# Altium footprint library Capacitor - Aluminium TH.PcbLib: 31 footprints (part 2 of 2)
Each footprint in its own frame and in the unit in brackets; x right, y up, seen from the top. Pads: shape width x height; smd on the part's side, far side on the other; paste and mask are expansions set on the pad; w line width, h text height; cw(c..) or ccw(c..) is an arc to the next point about the centre after c.
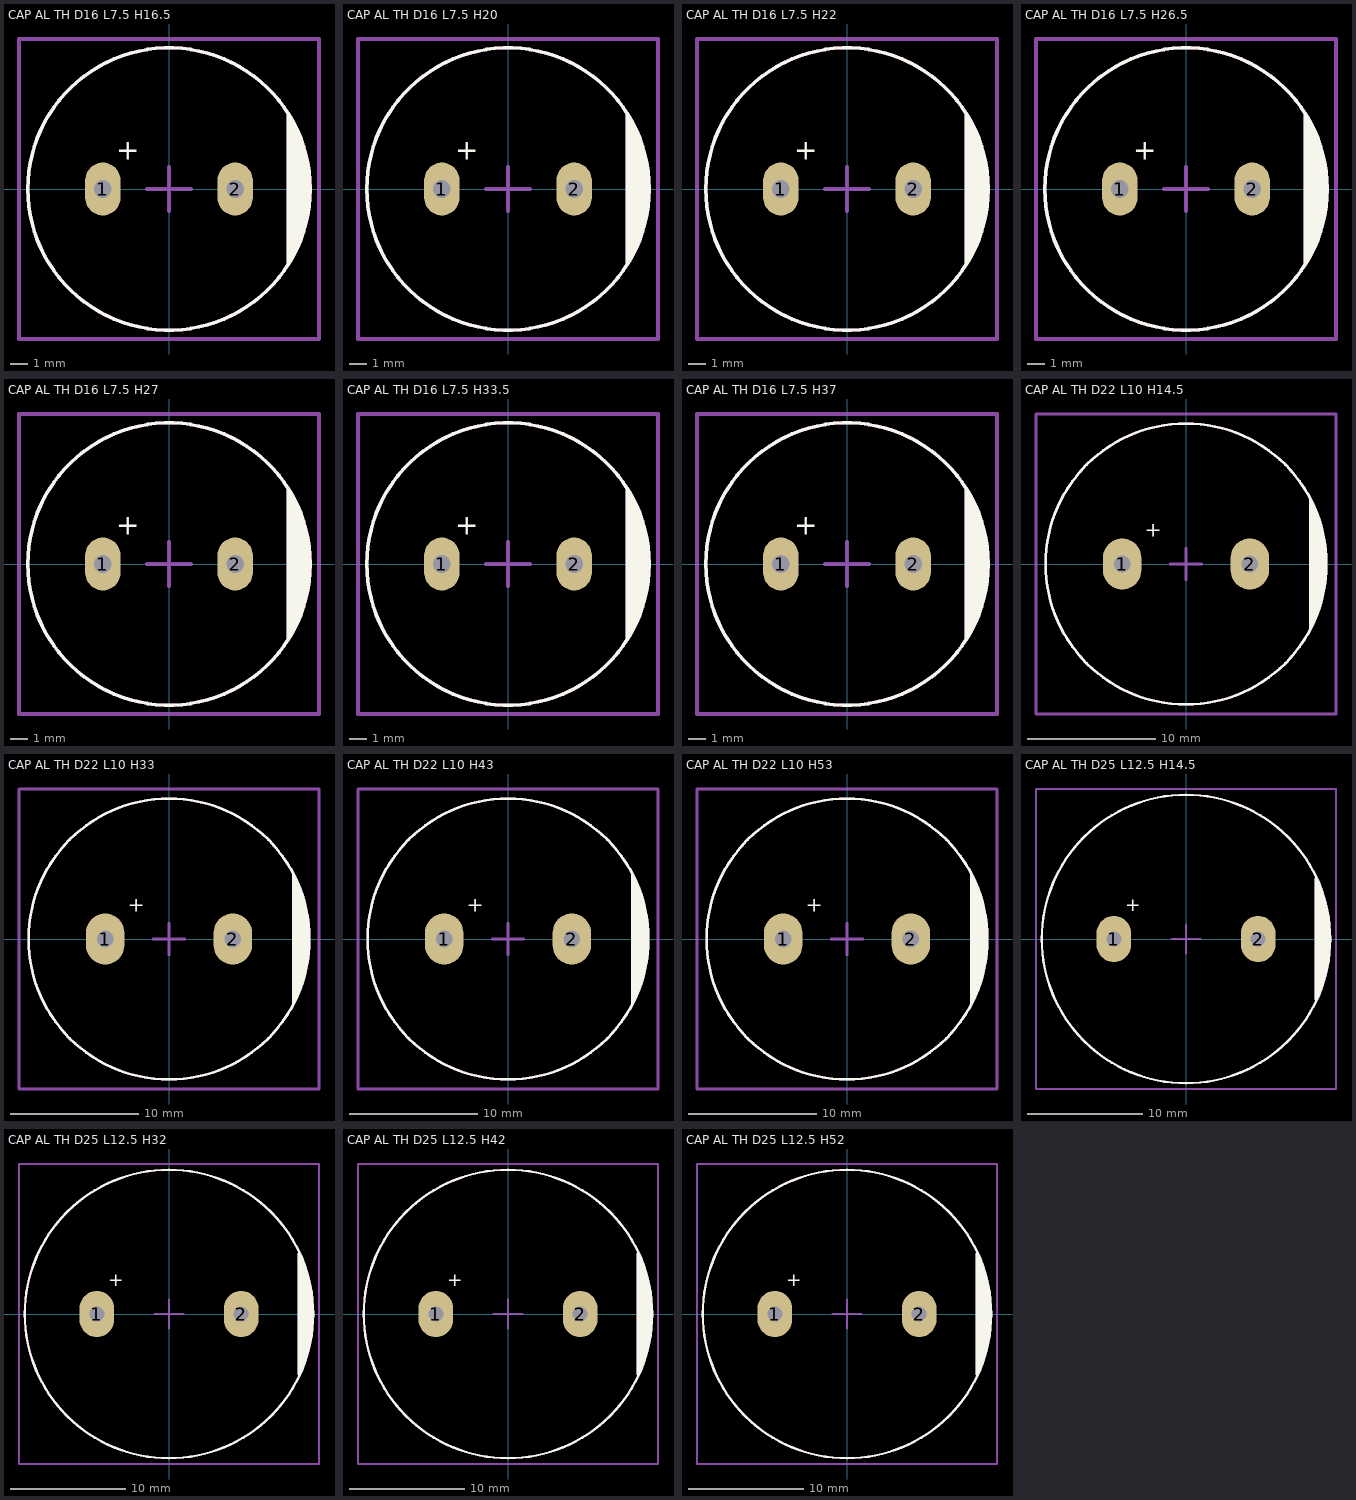
[diagram p1: the footprints below, top view; thin cyan lines are the x and y axes]

## CAP AL TH D16 L7.5 H16.5 [mm] "16MM Diameter, 7.5MM Lead Spacing Aluminium Capacitor"
height 16.5
pads (2):
  oval 2x3 hole 1: 1(-3.75,0) 2(3.75,0)
Top Overlay:
  circle w0.2: c0,0 r8
  region: 6.75,-4.25 6.75,4.25 7.5,2.75 8,1 8,0 7.75,-1.75 7.5,-2.75
  lines w0.2: 6.75,-4.25 6.75,4.25
  text "+" at -3,1.25 h2
Mechanical 13:
  circle w0.2: c0,0 r8
  lines w0.2: 6.75,-4.25 6.75,4.25
Mechanical 15:
  lines w0.2: -1.25,0 1.25,0 ; 0,-1.25 0,1.25 ; -8.5,-8.5 8.5,-8.5 8.5,8.5 -8.5,8.5 -8.5,-8.5
3D body "CAP ALTH D-16MM L-7.5MM H-16.5MM .STEP": height 16.7, standoff -3, extent -8,-7.991 8,7.991

## CAP AL TH D16 L7.5 H20 [mm] "16MM Diameter, 7.5MM Lead Spacing Aluminium Capacitor"
height 20
pads (2):
  oval 2x3 hole 1: 1(-3.75,0) 2(3.75,0)
Top Overlay:
  circle w0.2: c0,0 r8
  region: 6.75,-4.25 6.75,4.25 7.5,2.75 8,1 8,0 7.75,-1.75 7.5,-2.75
  lines w0.2: 6.75,-4.25 6.75,4.25
  text "+" at -3,1.25 h2
Mechanical 13:
  circle w0.2: c0,0 r8
  lines w0.2: 6.75,-4.25 6.75,4.25
Mechanical 15:
  lines w0.2: -1.25,0 1.25,0 ; 0,-1.25 0,1.25 ; -8.5,-8.5 8.5,-8.5 8.5,8.5 -8.5,8.5 -8.5,-8.5
3D body "CAP ALTH D-16MM L-7.5MM H-20MM .STEP": height 20.2, standoff -3, extent -8,-7.994 8,7.994

## CAP AL TH D16 L7.5 H22 [mm] "16MM Diameter, 7.5MM Lead Spacing Aluminium Capacitor"
height 22
pads (2):
  oval 2x3 hole 1: 1(-3.75,0) 2(3.75,0)
Top Overlay:
  circle w0.2: c0,0 r8
  region: 6.75,-4.25 6.75,4.25 7.5,2.75 8,1 8,0 7.75,-1.75 7.5,-2.75
  lines w0.2: 6.75,-4.25 6.75,4.25
  text "+" at -3,1.25 h2
Mechanical 13:
  circle w0.2: c0,0 r8
  lines w0.2: 6.75,-4.25 6.75,4.25
Mechanical 15:
  lines w0.2: -1.25,0 1.25,0 ; 0,-1.25 0,1.25 ; -8.5,-8.5 8.5,-8.5 8.5,8.5 -8.5,8.5 -8.5,-8.5
3D body "CAP ALTH D-16MM L-7.5MM H-22MM .STEP": height 22.2, standoff -3, extent -8,-7.998 8,7.998

## CAP AL TH D16 L7.5 H26.5 [mm] "16MM Diameter, 7.5MM Lead Spacing Aluminium Capacitor"
height 26.5
pads (2):
  oval 2x3 hole 1: 1(-3.75,0) 2(3.75,0)
Top Overlay:
  circle w0.2: c0,0 r8
  region: 6.75,-4.25 6.75,4.25 7.5,2.75 8,1 8,0 7.75,-1.75 7.5,-2.75
  lines w0.2: 6.75,-4.25 6.75,4.25
  text "+" at -3,1.25 h2
Mechanical 13:
  circle w0.2: c0,0 r8
  lines w0.2: 6.75,-4.25 6.75,4.25
Mechanical 15:
  lines w0.2: -1.25,0 1.25,0 ; 0,-1.25 0,1.25 ; -8.5,-8.5 8.5,-8.5 8.5,8.5 -8.5,8.5 -8.5,-8.5
3D body "CAP ALTH D-16MM L-7.5MM H-26.5MM .STEP": height 26.7, standoff -3, extent -8,-7.994 8,7.995

## CAP AL TH D16 L7.5 H27 [mm] "16MM Diameter, 7.5MM Lead Spacing Aluminium Capacitor"
height 27
pads (2):
  oval 2x3 hole 1: 1(-3.75,0) 2(3.75,0)
Top Overlay:
  circle w0.2: c0,0 r8
  region: 6.75,-4.25 6.75,4.25 7.5,2.75 8,1 8,0 7.75,-1.75 7.5,-2.75
  lines w0.2: 6.75,-4.25 6.75,4.25
  text "+" at -3,1.25 h2
Mechanical 13:
  circle w0.2: c0,0 r8
  lines w0.2: 6.75,-4.25 6.75,4.25
Mechanical 15:
  lines w0.2: -1.25,0 1.25,0 ; 0,-1.25 0,1.25 ; -8.5,-8.5 -8.5,8.5 8.5,8.5 8.5,-8.5 -8.5,-8.5
3D body "CAP ALTH D-16MM L-7.5MM H-27MM .STEP": height 27.2, standoff -3, extent -8,-7.994 8,7.995

## CAP AL TH D16 L7.5 H33.5 [mm] "16MM Diameter, 7.5MM Lead Spacing Aluminium Capacitor"
height 33.5
pads (2):
  oval 2x3 hole 1: 1(-3.75,0) 2(3.75,0)
Top Overlay:
  circle w0.2: c0,0 r8
  region: 6.75,-4.25 6.75,4.25 7.5,2.75 8,1 8,0 7.75,-1.75 7.5,-2.75
  lines w0.2: 6.75,-4.25 6.75,4.25
  text "+" at -3,1.25 h2
Mechanical 13:
  circle w0.2: c0,0 r8
  lines w0.2: 6.75,-4.25 6.75,4.25
Mechanical 15:
  lines w0.2: -1.25,0 1.25,0 ; 0,-1.25 0,1.25 ; -8.5,-8.5 -8.5,8.5 8.5,8.5 8.5,-8.5 -8.5,-8.5
3D body "CAP ALTH D-16MM L-7.5MM H-33.5MM.STEP": height 33.7, standoff -3, extent -8,-8 8,8

## CAP AL TH D16 L7.5 H37 [mm] "16MM Diameter, 7.5MM Lead Spacing Aluminium Capacitor"
height 37
pads (2):
  oval 2x3 hole 1: 1(-3.75,0) 2(3.75,0)
Top Overlay:
  circle w0.2: c0,0 r8
  region: 6.75,-4.25 6.75,4.25 7.5,2.75 8,1 8,0 7.75,-1.75 7.5,-2.75
  lines w0.2: 6.75,-4.25 6.75,4.25
  text "+" at -3,1.25 h2
Mechanical 13:
  circle w0.2: c0,0 r8
  lines w0.2: 6.75,-4.25 6.75,4.25
Mechanical 15:
  lines w0.2: -1.25,0 1.25,0 ; 0,-1.25 0,1.25 ; -8.5,-8.5 -8.5,8.5 8.5,8.5 8.5,-8.5 -8.5,-8.5
3D body "CAP ALTH D-16MM L-7.5MM H-37MM.STEP": height 37.2, standoff -3, extent -8,-8 8,8

## CAP AL TH D22 L10 H14.5 [mm] "16MM Diameter, 7.5MM Lead Spacing Aluminium Capacitor"
height 14.5
pads (2):
  oval 3x4 hole 1.3: 1(-5,0) 2(5,0)
Top Overlay:
  circle w0.2: c0,0 r11
  region: 9.75,-5 9.75,5 10.75,2.5 11,1 11,0 11,-1 10.5,-3.25
  lines w0.2: 9.75,-5 9.75,5
  text "+" at -3.25,1.75 h2
Mechanical 13:
  circle w0.2: c0,0 r11
  lines w0.2: 9.75,-5 9.75,5
Mechanical 15:
  lines w0.2: -1.25,0 1.25,0 ; 0,-1.25 0,1.25 ; -11.75,-11.75 -11.75,11.75 11.75,11.75 11.75,-11.75 -11.75,-11.75
3D body "CAP ALTH D-22MM L-10MM H-14.5MM.STEP": height 14.7, standoff -3, extent -11,-10.99 11,10.991

## CAP AL TH D22 L10 H33 [mm] "16MM Diameter, 7.5MM Lead Spacing Aluminium Capacitor"
height 33
pads (2):
  oval 3x4 hole 1.3: 1(-5,0) 2(5,0)
Top Overlay:
  circle w0.2: c0,0 r11
  region: 9.75,-5 9.75,5 10.75,2.5 11,1 11,0 11,-1 10.5,-3.25
  lines w0.2: 9.75,-5 9.75,5
  text "+" at -3.25,1.75 h2
Mechanical 13:
  circle w0.2: c0,0 r11
  lines w0.2: 9.75,-5 9.75,5
Mechanical 15:
  lines w0.2: -1.25,0 1.25,0 ; 0,-1.25 0,1.25 ; -11.75,-11.75 11.75,-11.75 11.75,11.75 -11.75,11.75 -11.75,-11.75
3D body "CAP ALTH D-22MM L-10MM H-33MM.STEP": height 33.2, standoff -3, extent -11,-10.995 11,10.995

## CAP AL TH D22 L10 H43 [mm] "16MM Diameter, 7.5MM Lead Spacing Aluminium Capacitor"
height 43
pads (2):
  oval 3x4 hole 1.3: 1(-5,0) 2(5,0)
Top Overlay:
  circle w0.2: c0,0 r11
  region: 9.75,-5 9.75,5 10.75,2.5 11,1 11,0 11,-1 10.5,-3.25
  lines w0.2: 9.75,-5 9.75,5
  text "+" at -3.25,1.75 h2
Mechanical 13:
  circle w0.2: c0,0 r11
  lines w0.2: 9.75,-5 9.75,5
Mechanical 15:
  lines w0.2: -1.25,0 1.25,0 ; 0,-1.25 0,1.25 ; -11.75,-11.75 11.75,-11.75 11.75,11.75 -11.75,11.75 -11.75,-11.75
3D body "CAP ALTH D-22MM L-10MM H-43MM.STEP": height 43.2, standoff -3, extent -11,-10.983 11,10.984

## CAP AL TH D22 L10 H53 [mm] "16MM Diameter, 7.5MM Lead Spacing Aluminium Capacitor"
height 53
pads (2):
  oval 3x4 hole 1.3: 1(-5,0) 2(5,0)
Top Overlay:
  circle w0.2: c0,0 r11
  region: 9.75,-5 9.75,5 10.75,2.5 11,1 11,0 11,-1 10.5,-3.25
  lines w0.2: 9.75,-5 9.75,5
  text "+" at -3.25,1.75 h2
Mechanical 13:
  circle w0.2: c0,0 r11
  lines w0.2: 9.75,-5 9.75,5
Mechanical 15:
  lines w0.2: -1.25,0 1.25,0 ; 0,-1.25 0,1.25 ; -11.75,-11.75 -11.75,11.75 11.75,11.75 11.75,-11.75 -11.75,-11.75
3D body "CAP ALTH D-22MM L-10MM H-53MM.STEP": height 53.2, standoff -3, extent -11,-10.97 11,10.971

## CAP AL TH D25 L12.5 H14.5 [mm] "16MM Diameter, 7.5MM Lead Spacing Aluminium Capacitor"
height 14.5
pads (2):
  oval 3x4 hole 1.3: 1(-6.25,0) 2(6.25,0)
Top Overlay:
  circle w0.2: c0,0 r12.5
  region: 11.25,-5.25 11.25,5.375 12,3.5 12.25,2.5 12.5,1 12.5,0 12.5,-1 12,-3.5
  lines w0.2: 11.25,-5.25 11.25,5.25
  text "+" at -5.25,2 h2
Mechanical 13:
  circle w0.2: c0,0 r12.5
  lines w0.2: 11.25,-5.25 11.25,5.25
Mechanical 15:
  lines w0.2: -1.25,0 1.25,0 ; 0,-1.25 0,1.25 ; -13,-13 -13,13 13,13 13,-13 -13,-13
3D body "CAP ALTH D-25MM L-12.5MM H-14.5MM.STEP": height 14.7, standoff -3, extent -12.5,-12.489 12.5,12.489

## CAP AL TH D25 L12.5 H32 [mm] "16MM Diameter, 7.5MM Lead Spacing Aluminium Capacitor"
height 32
pads (2):
  oval 3x4 hole 1.3: 1(-6.25,0) 2(6.25,0)
Top Overlay:
  circle w0.2: c0,0 r12.5
  region: 11.25,-5.25 11.25,5.375 12,3.5 12.25,2.5 12.5,1 12.5,0 12.5,-1 12,-3.5
  lines w0.2: 11.25,-5.25 11.25,5.25
  text "+" at -5.25,2 h2
Mechanical 13:
  circle w0.2: c0,0 r12.5
  lines w0.2: 11.25,-5.25 11.25,5.25
Mechanical 15:
  lines w0.2: -1.25,0 1.25,0 ; 0,-1.25 0,1.25 ; -13,-13 -13,13 13,13 13,-13 -13,-13
3D body "CAP ALTH D-25MM L-12.5MM H-32MM.STEP": height 32.2, standoff -3, extent -12.5,-12.49 12.5,12.491

## CAP AL TH D25 L12.5 H42 [mm] "16MM Diameter, 7.5MM Lead Spacing Aluminium Capacitor"
height 42
pads (2):
  oval 3x4 hole 1.3: 1(-6.25,0) 2(6.25,0)
Top Overlay:
  circle w0.2: c0,0 r12.5
  region: 11.25,-5.25 11.25,5.375 12,3.5 12.25,2.5 12.5,1 12.5,0 12.5,-1 12,-3.5
  lines w0.2: 11.25,-5.25 11.25,5.25
  text "+" at -5.25,2 h2
Mechanical 13:
  circle w0.2: c0,0 r12.5
  lines w0.2: 11.25,-5.25 11.25,5.25
Mechanical 15:
  lines w0.2: -1.25,0 1.25,0 ; 0,-1.25 0,1.25 ; -13,-13 -13,13 13,13 13,-13 -13,-13
3D body "CAP ALTH D-25MM L-12.5MM H-42MM.STEP": height 42.2, standoff -3, extent -12.5,-12.491 12.5,12.492

## CAP AL TH D25 L12.5 H52 [mm] "16MM Diameter, 7.5MM Lead Spacing Aluminium Capacitor"
height 52
pads (2):
  oval 3x4 hole 1.3: 1(-6.25,0) 2(6.25,0)
Top Overlay:
  circle w0.2: c0,0 r12.5
  region: 11.25,-5.25 11.25,5.375 12,3.5 12.25,2.5 12.5,1 12.5,0 12.5,-1 12,-3.5
  lines w0.2: 11.25,-5.25 11.25,5.25
  text "+" at -5.25,2 h2
Mechanical 13:
  circle w0.2: c0,0 r12.5
  lines w0.2: 11.25,-5.25 11.25,5.25
Mechanical 15:
  lines w0.2: -1.25,0 1.25,0 ; 0,-1.25 0,1.25 ; -13,-13 -13,13 13,13 13,-13 -13,-13
3D body "CAP ALTH D-25MM L-12.5MM H-52MM.STEP": height 52.2, standoff -3, extent -12.5,-12.481 12.5,12.481